# Altium schematic symbol library MasterLib.SchLib: 162 symbols (part 1 of 2)
Pins are listed as number, name and electrical type; pins without a type are passive.

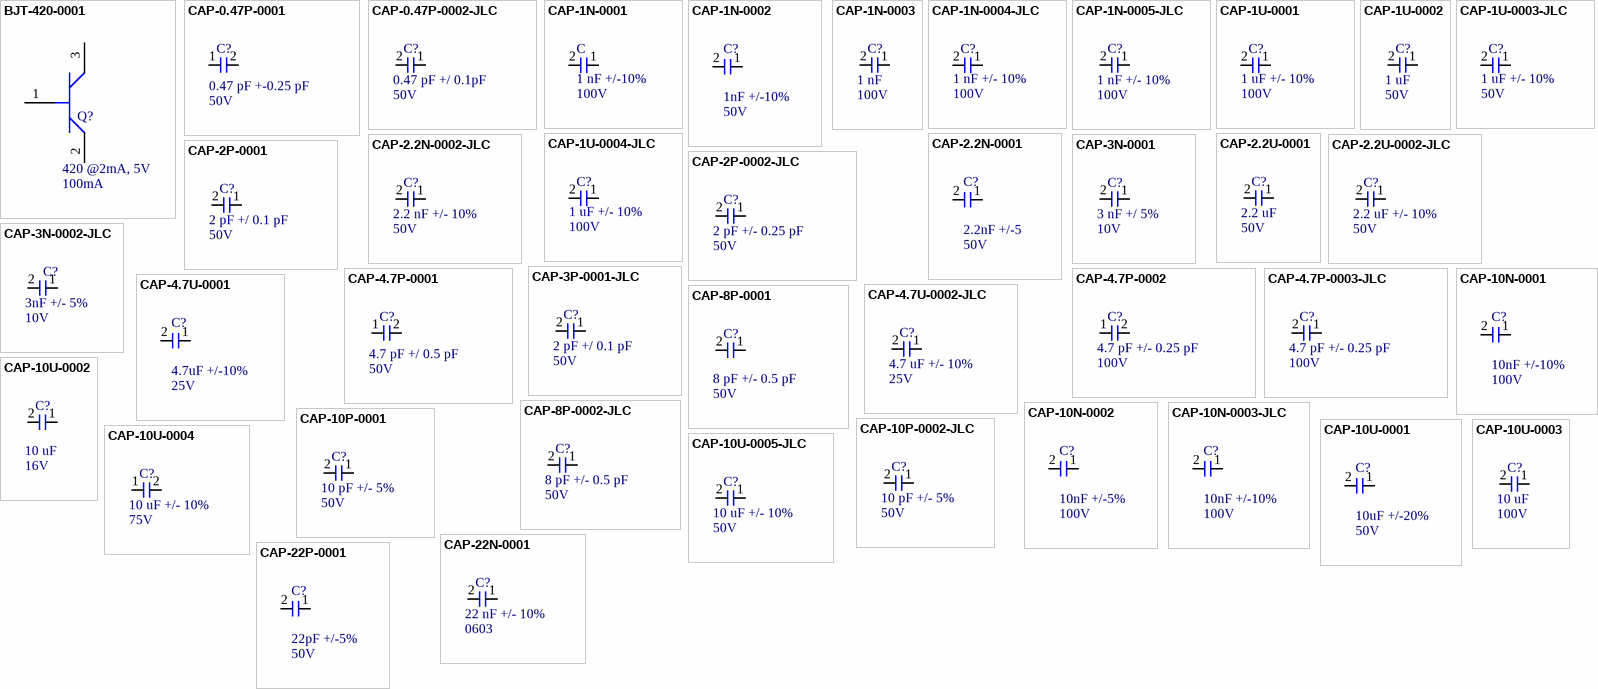
[diagram p0: symbols BJT-420-0001 to CAP-22P-0001]

## BJT-420-0001
designator Q?, comment hFE: 420 @2mA, 5V  Ic: 100mA  (hidden comment: BC847C,235)
Bipolar (BJT) Transistor NPN 45 V 100 mA 100MHz 250 mW Surface Mount TO-236AB; VCEO: 45V; Transistor type: NPN; Package: TO-236AB
footprint NPN-420-0001
pins: 1, 2, 3

## CAP-0.47P-0001
designator C?, comment Capacitance: 0.47 pF +-0.25 pF  Voltage Rating: 50V  (hidden comment: CC0603CRNPO9BNR47)
0.47 pF ±0.25pF 50V Ceramic Capacitor C0G, NP0 0603 (1608 Metric); Manufacturer: YAGEO; Assembled?: Yes; Package Size: 0603; Temperature Coefficient: C0G, NP0; Manufacturere Part Number: CC0603CRNPO9BNR47
footprint CAP-0603
pins: 1, 2

## CAP-0.47P-0002-JLC
designator C?, comment Capacitance: 0.47 pF +/ 0.1pF  Parameter 2: 50V  (hidden comment: CC0402BRNPO9BNR47)
50V 0.47pF NP0 ±0.1pF 0402 Multilayer Ceramic Capacitors MLCC - SMD/SMT ROHS; assembled?: yes; JLC part number: C114389
footprint CAP-0402
pins: 1, 2

## CAP-1N-0001
designator C, comment Capacitance: 1 nF +/-10%  Voltage: 100V  (hidden comment: C0603Y102K1RAC7867)
1000 pF ±10% 100V Ceramic Capacitor X7R 0603 (1608 Metric)
footprint CAP-0603
pins: 1, 2

## CAP-1N-0002
designator C?, comment Capacitance: 1nF +/-10%  Voltage Rating: 50V  (hidden comment: CC0402KPX7R9BB102)
1000 pF ±10% 50V Ceramic Capacitor X7R 0402 (1005 Metric); Manufacturer: YAGEO; Assembled?: no; Manufacturer Part Number: CC0402KPX7R9BB102; Temperature Coefficient: X7R; Package Size: 0402
footprint CAP-0402
pins: 1, 2

## CAP-1N-0003
designator C?, comment Capacitance: 1 nF  Voltage Rating: 100V  (hidden comment: CDR01BX102BKUS7185)
1000 pF ±10% 100V Ceramic Capacitor BX 0805 (2012 Metric); Package Size: 0805
footprint CAP-0805
pins: 1, 2

## CAP-1N-0004-JLC
designator C?, comment Capacitance: 1 nF +/- 10%  Voltage: 100V  (hidden comment: C0402C102K1GECAUTO)
100V 1nF C0G ±10% 0402 Multilayer Ceramic Capacitors MLCC - SMD/SMT ROHS; assembled?: yes; JLC part number: C696348
footprint CAP-0402
pins: 1, 2

## CAP-1N-0005-JLC
designator C?, comment Capacitance: 1 nF +/- 10%  Voltage: 100V  (hidden comment: GCM155R72A102KA37D)
100V 1nF X7R ±10% 0402 Multilayer Ceramic Capacitors MLCC - SMD/SMT ROHS; assembled?: yes; JLC part number: C126538
footprint CAP-0402
pins: 1, 2

## CAP-1U-0001
designator C?, comment Capacitance: 1 uF +/- 10%  Voltage: 100V  (hidden comment: CL31B105KCHNNNE)
1 µF ±10% 100V Ceramic Capacitor X7R 1206 (3216 Metric)
footprint CAP-1206 - duplicate
pins: 1, 2

## CAP-1U-0002
designator C?, comment Capacitance: 1 uF  Voltage: 50V  (hidden comment: UMK107AB7105KA-T)
1 µF ±10% 50V Ceramic Capacitor X7R 0603 (1608 Metric); Package Size: 0603
footprint CAP-0603
pins: 1, 2

## CAP-1U-0003-JLC
designator C?, comment Cap: 1 uF +/- 10%  Voltage: 50V  (hidden comment: GCM21BR71H105KA03L)
50V 1uF X7R ±10% 0805 Multilayer Ceramic Capacitors MLCC - SMD/SMT ROHS; assembled?: yes; JLC Part Number: C126592
footprint CAP-0805
pins: 1, 2

## CAP-1U-0004-JLC
designator C?, comment Capacitance: 1 uF +/- 10%  Voltage: 100V  (hidden comment: C1206X105K101T)
100V 1uF X7R ±10% 1206 Multilayer Ceramic Capacitors MLCC - SMD/SMT ROHS; assembled: yes; JLC Part Number: C106026
footprint CAP-1206 - duplicate
pins: 1, 2

## CAP-2.2N-0001
designator C?, comment Capacitance: 2.2nF +/-5  Voltage Rating: 50V  (hidden comment: CC0402JRX7R9BB222)
2200 pF ±5% 50V Ceramic Capacitor X7R 0402 (1005 Metric); Manufacturer: YAGEO; Assembled?: no; Manufacturer Part Number: CC0402JRX7R9BB222; Temperature Coefficient: X7R; Package Size: 0402
footprint CAP-0402
pins: 1, 2

## CAP-2.2N-0002-JLC
designator C?, comment Capacitance: 2.2 nF +/- 10%  Voltage: 50V  (hidden comment: GCM155R71H222KA37D)
50V 2.2nF X7R ±10% 0402 Multilayer Ceramic Capacitors MLCC - SMD/SMT ROHS; assembled: yes; JLC part number: C126534
footprint CAP-0402
pins: 1, 2

## CAP-2.2U-0001
designator C?, comment Capacitance: 2.2 uF  oltage: 50V  (hidden comment: UMK107BBJ225KA-T)
2.2 µF ±10% 50V Ceramic Capacitor X5R 0603 (1608 Metric)
footprint CAP-0603
pins: 1, 2

## CAP-2.2U-0002-JLC
designator C?, comment Capacitance: 2.2 uF +/- 10%  Voltage: 50V  (hidden comment: CC0805KKX7R9BB225)
50V 2.2uF X7R ±10% 0805 Multilayer Ceramic Capacitors MLCC - SMD/SMT ROHS; assembled: yes; JLC part number: C125847
footprint CAP-0805
pins: 1, 2

## CAP-2P-0001
designator C?, comment Capacitance: 2 pF +/ 0.1 pF  Voltage: 50V  (hidden comment: CC0402BRNPO9BN2R0)
2 pF ±0.1pF 50V Ceramic Capacitor C0G, NP0 0402 (1005 Metric)
footprint CAP-0402
pins: 1, 2

## CAP-2P-0002-JLC
designator C?, comment Cap: 2 pF +/- 0.25 pF  Voltage: 50V  (hidden comment: GJM1555C1H2R0CB01D)
50V 2pF C0G ±0.25pF 0402 Multilayer Ceramic Capacitors MLCC - SMD/SMT ROHS; assembled: yes; JLC part number: C85879
footprint CAP-0402
pins: 1, 2

## CAP-3N-0001
designator C?, comment Capacitance: 3 nF +/ 5%  Voltagev: 10V  (hidden comment: GRM1557U1A302JA01D)
3000 pF ±5% 10V Ceramic Capacitor U2J 0402 (1005 Metric)
footprint CAP-0402
pins: 1, 2

## CAP-3N-0002-JLC
designator C?, comment Capacitance: 3nF +/- 5%  Voltage: 10V  (hidden comment: GRM1557U1A302JA01D)
10V 3nF U2J ±5% 0402 Multilayer Ceramic Capacitors MLCC - SMD/SMT ROHS; assembled: yes; JLC part number: C162145
footprint CAP-0402
pins: 1, 2

## CAP-3P-0001-JLC
designator C?, comment Capacitance: 2 pF +/ 0.1 pF  Voltage: 50V  (hidden comment: CC0402BRNPO9BN3R0)
50V 3pF NP0 ±0.1pF 0402 Multilayer Ceramic Capacitors MLCC - SMD/SMT ROHS; assembled: yes; JLC Part Number: C327228
footprint CAP-0402
pins: 1, 2

## CAP-4.7P-0001
designator C?, comment Capacitance: 4.7 pF +/ 0.5 pF  Voltage Rating: 50V  (hidden comment: 06035A4R7DAT2A)
4.7 pF ±0.5pF 50V Ceramic Capacitor C0G, NP0 0603 (1608 Metric); Manufacturer: KYOCERA AVX; Temperature Coefficient: G0G. NP0; Assembled?: Yes; Manufacturer Part Number: 06035A4R7DAT2A; Package Size: 0603
footprint CAP-0603
pins: 1, 2

## CAP-4.7P-0002
designator C?, comment Capacitance: 4.7 pF +/- 0.25 pF  Voltage: 100V  (hidden comment: CC0603CRNPO0BN4R7)
4.7 pF ±0.25pF 100V Ceramic Capacitor C0G, NP0 0603 (1608 Metric)
footprint CAP-0603
pins: 1, 2

## CAP-4.7P-0003-JLC
designator C?, comment capacitance: 4.7 pF +/- 0.25 pF  Voltage: 100V  (hidden comment: CC0603CRNPO0BN4R7)
100V 4.7pF NP0 ±0.25pF 0603 Multilayer Ceramic Capacitors MLCC - SMD/SMT ROHS; assembled: yes; JLC part number: C527037
footprint CAP-0603
pins: 1, 2

## CAP-4.7U-0001
designator C?, comment Capacitance: 4.7uF +/-10%  Voltage Rating: 25V  (hidden comment: TMK107BBJ475KA-T)
4.7 µF ±10% 25V Ceramic Capacitor X5R 0603 (1608 Metric); Manufacturer: Taiyo Yuden; Assembled?: no; Manufacturer Part Number: TMK107BBJ475KA-T; Temperature Coefficient: X5R; Package Size: 0603
footprint CAP-0603
pins: 1, 2

## CAP-4.7U-0002-JLC
designator C?, comment Capacitacen: 4.7 uF +/- 10%  Voltage: 25V  (hidden comment: CC0603KRX5R8BB475)
25V 4.7uF X5R ±10% 0603 Multilayer Ceramic Capacitors MLCC - SMD/SMT ROHS; assembled: yes; JLC part number: C326580
footprint CAP-0603
pins: 1, 2

## CAP-8P-0001
designator C?, comment Capacitance: 8 pF +/- 0.5 pF  Voltage: 50V  (hidden comment: CC0603DRNPO9BN8R0)
8 pF ±0.5pF 50V Ceramic Capacitor C0G, NP0 0603 (1608 Metric); Package Size: 0603
footprint CAP-0603
pins: 1, 2

## CAP-8P-0002-JLC
designator C?, comment Capaitance: 8 pF +/- 0.5 pF  Parameter 2: 50V  (hidden comment: CC0402DRNPO9BN8R0)
50V 8pF NP0 ±0.5pF 0402 Multilayer Ceramic Capacitors MLCC - SMD/SMT ROHS; assembled: yes; JLC part number: C327227
footprint CAP-0402
pins: 1, 2

## CAP-10N-0001
designator C?, comment Capacitance: 10nF +/-10%  Voltage Rating: 100V  (hidden comment: CC0402KRX7R0BB103)
10000 pF ±10% 100V Ceramic Capacitor X7R 0402 (1005 Metric); Manufacturer: YAGEO; Assembled?: no; Manufacturer Part Number: CC0402KRX7R0BB103; Temperature Coefficient: X7R; Package Size: 0402
footprint CAP-0402
pins: 1, 2

## CAP-10N-0002
designator C?, comment Capacitance: 10nF +/-5%  Voltage Rating: 100V  (hidden comment: C1608C0G2A103J080AC)
CAP CER 10000PF 100V C0G 0603; Manufacturer: TDK Corporation; Temperature Coefficient: C0G/NP0; Assembled?: no; Manufacturer Part Number: C1608C0G2A103J080AC; Package Size: 0603
footprint CAP-0603
pins: 1, 2

## CAP-10N-0003-JLC
designator C?, comment Capacitance: 10nF +/-10%  Voltage Rating: 100V  (hidden comment: CC0603KRX7R0BB103)
100V 10nF X7R ±10% 0603 Multilayer Ceramic Capacitors MLCC - SMD/SMT ROHS; Manufacturer: Yageo; Assembled?: yes; Manufacturer Part Number: CC0603KRX7R0BB103; Temperature Coefficient: X7R; Package Size: 0603; JLC Part Number: C107059
footprint CAP-0603
pins: 1, 2

## CAP-10P-0001
designator C?, comment Capacitance: 10 pF +/- 5%  Voltage Rating: 50V  (hidden comment: 0603N100J500CT)
10 pF ±5% 50V Ceramic Capacitor C0G, NP0 0603 (1608 Metric); Manufacturer: Walshin Technology Corporation; Assembled?: Yes; Manufacturer Part Number: 0603N100J500CT; Temperature Coefficient: C0G, NP0; Package Size: 0603
footprint CAP-0603
pins: 1, 2

## CAP-10P-0002-JLC
designator C?, comment Capacitance: 10 pF +/- 5%  Voltage Rating: 50V  (hidden comment: CC0402JRNPO9BN100)
50V 10pF NP0 ±5% 0402 Multilayer Ceramic Capacitors MLCC - SMD/SMT ROHS; Manufacturer: Yageo; Temperature Coefficient: C0G, NP0; Assembled?: Yes; Manufacturer Part Number: CC0402JRNPO9BN100; Package Size: 0402; JLC Part Number: C106199
footprint CAP-0402
pins: 1, 2

## CAP-10U-0001
designator C?, comment Capacitance: 10uF +/-20%  Voltage Rating: 50V  (hidden comment: CL31B106KBHNNNE)
10 µF ±10% 50V Ceramic Capacitor X7R 1206 (3216 Metric); Manufacturer: Samsung Electro-Mechanics; Assembled?: no; Manufacturer Part Number: CL31B106KBHNNNE; Temperature Coefficient: X7R; Package Size: 1206
footprint CAP-1206
pins: 1, 2

## CAP-10U-0002
designator C?, comment Capacitance: 10 uF  Voltage Rating: 16V  (hidden comment: CL21A106KOQNNNE)
10 µF ±10% 16V Ceramic Capacitor X7R 0805 (2012 Metric); Package Size: 0805
footprint CAP-0805
pins: 1, 2

## CAP-10U-0003
designator C?, comment Capcitance: 10 uF  Voltage Rating: 100V  (hidden comment: GRM32EC72A106KE05L)
10 µF ±10% 100V Ceramic Capacitor X7S 1210 (3225 Metric); Package Size: 1210
footprint CAP-1210
pins: 1, 2

## CAP-10U-0004
designator C?, comment Capacitance: 10 uF +/- 10%  Voltage Rating: 75V  (hidden comment: C3225X7R1N106K250AC)
10 µF ±10% 75V Ceramic Capacitor X7R 1210 (3225 Metric)
footprint CAP-1210
pins: 1, 2

## CAP-10U-0005-JLC
designator C?, comment Capacitance: 10 uF +/- 10%  Voltage: 50V  (hidden comment: CL32A106KBJNNNE)
50V 10uF X5R ±10% 1210 Multilayer Ceramic Capacitors MLCC - SMD/SMT ROHS; jlc part number: C380537; jlc?: yes
footprint CAP-1210
pins: 1, 2

## CAP-22N-0001
designator C?, comment Capacitance: 22 nF +/- 10%  Package Size: 0603  (hidden comment: C0603C223K3RAC7867)
0.022 µF ±10% 25V Ceramic Capacitor X7R 0603 (1608 Metric)
footprint CAP-0603
pins: 1, 2

## CAP-22P-0001
designator C?, comment Capacitance: 22pF +/-5%  Voltage Rating: 50V  (hidden comment: GRT1555C1H220JA02J)
22 pF ±5% 50V Ceramic Capacitor C0G, NP0 0402 (1005 Metric); Manufacturer: Murata; Temperature Coefficient: C0G/NP0; Assembled?: no; Manufacturer Part Number: GRT1555C1H220JA02J; Package Size: 0402
footprint CAP-0402
pins: 1, 2

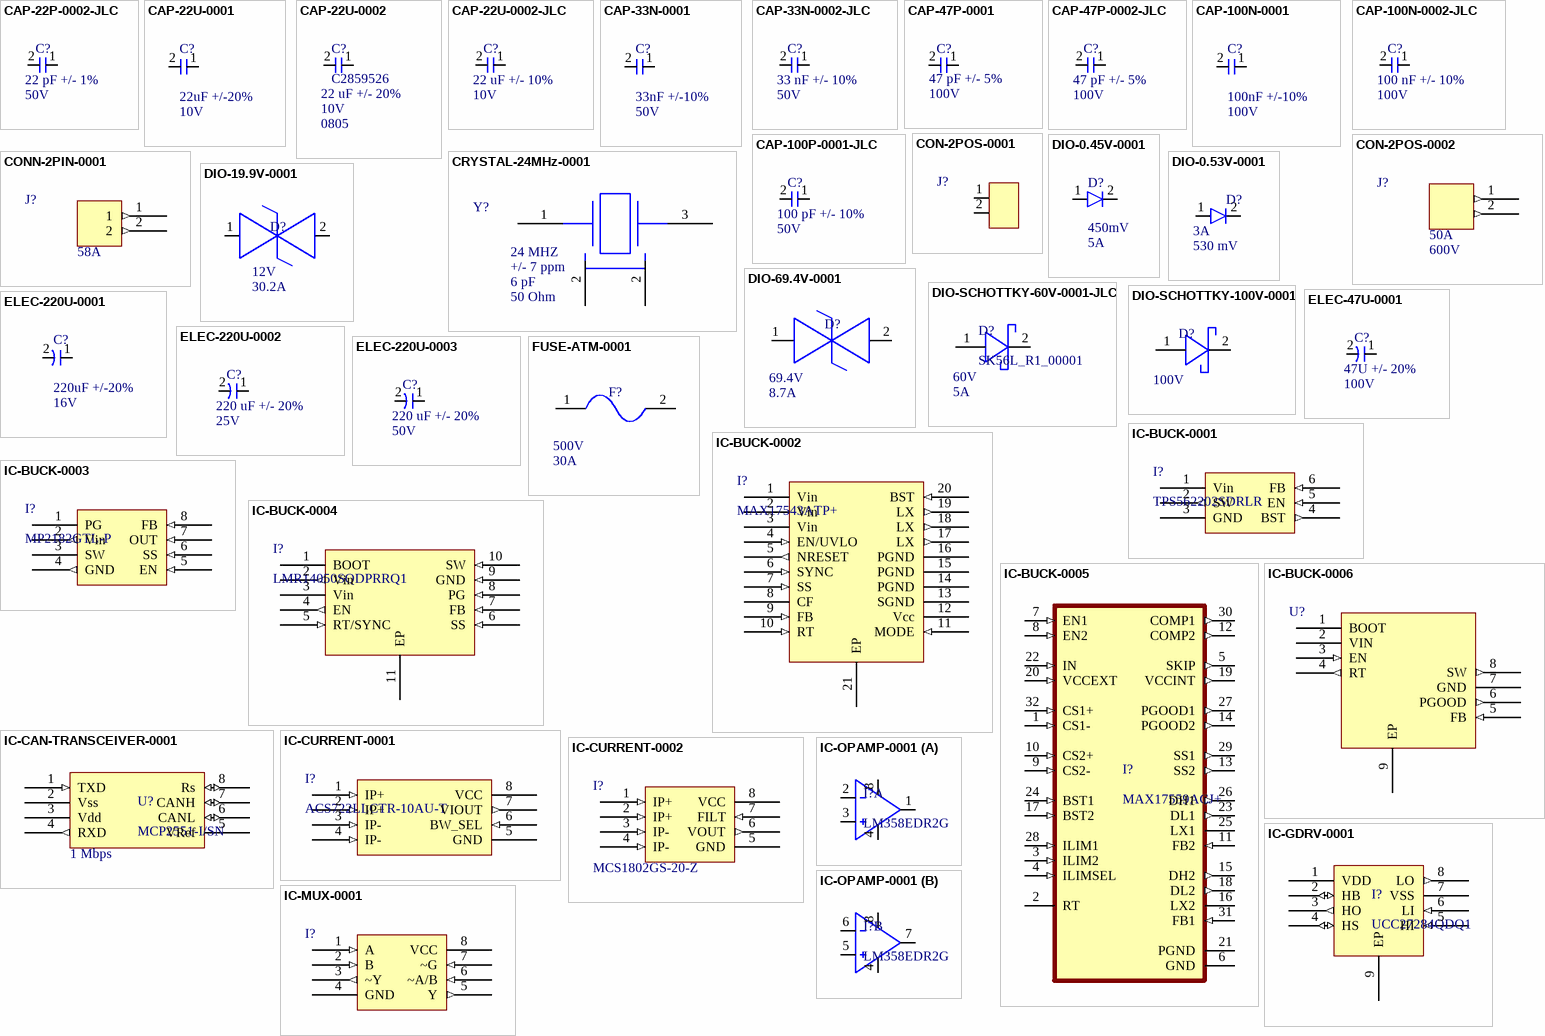
[diagram p1: symbols CAP-22P-0002-JLC to IC-OPAMP-0001]

## CAP-22P-0002-JLC
designator C?, comment Capacitance: 22 pF +/- 1%  Voltage: 50V  (hidden comment: CC0402FRNPO9BN220)
50V 22pF NP0 ±1% 0402 Multilayer Ceramic Capacitors MLCC - SMD/SMT ROHS; assembled?: yes; JLC part number: C277482
footprint CAP-0402
pins: 1, 2

## CAP-22U-0001
designator C?, comment Capacitance: 22uF +/-20%  Voltage Rating: 10V  (hidden comment: CL31B226MPHNNNE)
22 µF ±20% 10V Ceramic Capacitor X7R 1206 (3216 Metric); Manufacturer: Samsung Electro-Mechanics; Assembled?: no; Manufacturer Part Number: CL31B226MPHNNNE; Temperature Coefficient: X7R; Package Size: 1206
footprint CAP-1206
pins: 1, 2

## CAP-22U-0002
designator C?, comment C2859526  Capacitance: 22 uF +/- 20%  Voltage: 10V  Package Size: 0805
22uF 10V 5Ω ±20% 0805  Tantalum Capacitors ROHS
footprint CAP-0805
pins: 1, 2

## CAP-22U-0002-JLC
designator C?, comment Capacitance: 22 uF +/- 10%  Voltage: 10V  (hidden comment: LMK316AB7226KL-TR)
10V 22uF X7R ±10% 1206 Multilayer Ceramic Capacitors MLCC - SMD/SMT ROHS; assembled?: yes; JLC part number: C386064
footprint CAP-1206 - duplicate
pins: 1, 2

## CAP-33N-0001
designator C?, comment Capacitance: 33nF +/-10%  Voltage Rating: 50V  (hidden comment: CC0603KRX7R9BB333)
0.033 µF ±10% 50V Ceramic Capacitor X7R 0603 (1608 Metric); Manufacturer: YAGEO; Assembled?: no; Manufacturer Part Number: CC0603KRX7R9BB333; Temperature Coefficient: X7R; Package Size: 0603
footprint CAP-0603
pins: 1, 2

## CAP-33N-0002-JLC
designator C?, comment Capacitance: 33 nF +/- 10%  Voltage: 50V  (hidden comment: GRM155R71H333KE14D)
50V 33nF X7R ±10% 0402  Multilayer Ceramic Capacitors MLCC - SMD/SMT ROHS; assembled?: yes; JLC part number: C415530
footprint CAP-0402
pins: 1, 2

## CAP-47P-0001
designator C?, comment Capacitance: 47 pF +/- 5%  Voltage Rating: 100V  (hidden comment: 7447798111)
47 pF ±5% 100V Ceramic Capacitor C0G, NP0 0603 (1608 Metric)
footprint CAP-0603
pins: 1, 2

## CAP-47P-0002-JLC
designator C?, comment Capacitance: 47 pF +/- 5%  Voltage: 100V  (hidden comment: CC0402JRNPO0BN470)
100V 47pF NP0 ±5% 0402  Multilayer Ceramic Capacitors MLCC - SMD/SMT ROHS; assembled?: yes; JLC part number: C576703
footprint CAP-0402
pins: 1, 2

## CAP-100N-0001
designator C?, comment Capacitance: 100nF +/-10%  Voltage Rating: 100V  (hidden comment: CC0603KRX7R0BB104)
CAP CER 0.1UF 100V X7R 0603; Manufacturer: YAGEO; Assembled?: no; Manufacturer Part Number: CC0603KRX7R0BB104; Temperature Coefficient: X7R; Package Size: 0603
footprint CAP-0603
pins: 1, 2

## CAP-100N-0002-JLC
designator C?, comment Capacitance: 100 nF +/- 10%  Voltage: 100V  (hidden comment: CC0603KRX7R0BB104)
100V 100nF X7R ±10% 0603 Multilayer Ceramic Capacitors MLCC - SMD/SMT ROHS; assembled?: yes; JLC Part Number: C113803
footprint CAP-0603
pins: 1, 2

## CAP-100P-0001-JLC
designator C?, comment Capacitance: 100 pF +/- 10%  Voltage: 50V  (hidden comment: 0402B101K500NT)
50V 100pF X7R ±10% 0402 Multilayer Ceramic Capacitors MLCC - SMD/SMT ROHS; assembled?: yes; JLC part number: C2991538
footprint CAP-0402
pins: 1, 2

## CON-2POS-0001
designator J?, comment Pin Header 2POS  (value not drawn)
Assembled?: no; Rows: 1; Pins: 2
footprint CON-2POS-0001
pins: 1, 2

## CON-2POS-0002
designator J?, comment Current: 50A  Voltage: 600V  (hidden comment: 0389690002)
2 Circuit 0.500" (12.70mm) Barrier Block Connector Screws with Captive Plate
footprint CON-2POS-0002
pins: 1 (out), 2 (out)

## CONN-2PIN-0001
designator J?, comment Current Rating: 58A  (hidden comment: *691256610002)
2 Position Wire to Board Terminal Block Horizontal with Board 0.400" (10.16mm) Through Hole; Number of Inputs: 2
footprint CONN-2PIN-0001
pins: 1 (out), 2 (out)

## CRYSTAL-24MHz-0001
designator Y?, comment Frequency: 24 MHZ  Frequency Tolerance: +/- 7 ppm  Load Capacitance: 6 pF  Equavalence Series Resistance: 50 Ohm  (hidden comment: ECS-240-6-37B-7KM-TR)
24 MHz ±7ppm Crystal 6pF 50 Ohms 4-SMD, No Lead; Manufacturer: ECS Inc.; Manufacturer Part Number: ECS-240-6-37B-7KM-TR; Package Size: 4-SMD
footprint CRYSTAL-4-SMD-0001
pins: 1, 2, 2, 3

## DIO-0.45V-0001
designator D?, comment Vf: 450mV  Current Rating: 5A  (hidden comment: RB081LAM-20TR)
Diode Schottky 20 V 5A Surface Mount PMDTM; Manufacturer: Rohm Semiconductor; Assembled?: no; Breakdown Voltage: 20V; Manufacturer Part Number: RB081LAM-20TR; Package: SOD-128
footprint DIO-SOD128
pins: 1, 2

## DIO-0.53V-0001
designator D?, comment Current Rating: 3A  Vf (Voltage Forward): 530 mV  (hidden comment: PMEG6030EP,115)
Diode Schottky 60 V 3A Surface Mount SOD-128/CFP5; Manufacturer: Nexperia USA Inc.; Assembled: no; Manufacturer Part Number: PMEG6030EP,115; Package: SOD-128/CFP5
footprint DIO-SOD128
pins: 1, 2

## DIO-19.9V-0001
designator D?, comment Standoff Voltage: 12V  Current Rating: 30.2A  (hidden comment: SMBJ12CA)
19.9V Clamp 30.2A Ipp Tvs Diode Surface Mount DO-214AA (SMBJ); Manufacturer: Littlefuse Inc.; Assembled: No; Breakdown Voltage: 13.3; Manufacturer Part Number: SMBJ12CA; Package: DO-214AA (SMBJ)
footprint DO-214AA (SMBJ)
pins: 1, 2

## DIO-69.4V-0001
designator D?, comment Vclamp: 69.4V  Peak pulser current: 8.7A  (hidden comment: SMBJE43CAH)
69.4V Clamp 8.7A Ipp Tvs Diode Surface Mount DO-214AA (SMBJ); Channels: Bidirectional; Breakdown VOltage: 47.8V; Reverse working maximum voltage: 43V; Package: DO-214AA (SMBJ)
footprint DO-214AA (SMBJ)
pins: 1, 2

## DIO-SCHOTTKY-60V-0001-JLC
designator D?, comment SK56L_R1_00001  Reverse voltage: 60V  Current: 5A
Diode 60 V 5A Surface Mount SMC (DO-214AB); Vf: 500 mA @5A; jlc?: yes; jlc part number: C294834
footprint DO-214AB
pins: 1 5, 2 6

## DIO-SCHOTTKY-100V-0001
designator D?, comment DC Reverse Voltage: 100V  (hidden comment: SK510A-LTP)
Diode 100 V 5A Surface Mount DO-214AC (SMA); Forward Voltage: 850mV @ 5A; Current: 5A
footprint DIO-SCHOTTKY-100V
pins: 1 5, 2 6

## ELEC-47U-0001
designator C?, comment Capacitance: 47U +/- 20%  Voltage: 100V  (hidden comment: 100SGV47M12.5X13.5)
47 µF 100 V Aluminum Electrolytic Capacitors Radial, Can - SMD 2000 Hrs @ 105°C
footprint ELEC-47U-0001
pins: 1, 2

## ELEC-220U-0001
designator C?, comment Capacitance: 220uF +/-20%  Voltage Rating: 16V  (hidden comment: UUD1C221MCL1GS)
220 µF 16 V Aluminum Electrolytic Capacitors Radial, Can - SMD 2000 Hrs @ 105°C; Manufacturer: Nichicon; Assembled?: no; Manufacturer Part Number: UUD1C221MCL1GS
footprint ELEC-220U-0001
pins: 1, 2

## ELEC-220U-0002
designator C?, comment Capacitance: 220 uF +/- 20%  Voltage: 25V  (hidden comment: 25THV220M8X10.5)
220 µF 25 V Aluminum Electrolytic Capacitors Radial, Can - SMD 300mOhm @ 100kHz 3000 Hrs @ 125°C; SIze: 0.327 in x 0.327 in
footprint ELEC-220U-0002
pins: 1, 2

## ELEC-220U-0003
designator C?, comment Capacitance: 220 uF +/- 20%  Voltage Rating: 50V  (hidden comment: 50TZV220M10X10.5)
220 µF 50 V Aluminum Electrolytic Capacitors Radial, Can - SMD 2000 Hrs @ 105°C; Size: .406inx.406in*.413in
footprint ELEC-220U-0003
pins: 1, 2

## FUSE-ATM-0001
designator F?, comment Voltage Rating: 500V  Current: 30A  (hidden comment: 3568)
Fuse Holder 30 A 500V 1 Circuit Blade Through Hole; Manufacturer Part Number: 3568
footprint FUSE-ATM-0001
pins: 1 0, 2 1

## IC-BUCK-0001
designator I?, comment TPS562202SDRLR
Buck Switching Regulator IC Positive Adjustable 0.804V 1 Output 2A SOT-563, SOT-666; Manufacturer: Texas Instruments; Assembled?: no; VCC-Max: 17V; VCC-Min: 4.3V; Vout-Max: 7V; Vout-Tolerance: +/-5%; Fsw: 580kHz; Manufacturer Part Number: TPS562202SDRLR; Type: Buck; Package: SOT-563; Vout-Min: 0.804V; Output Current-Max: 2A
footprint IC-BUCK-SOT563
pins: 1 Vin (power), 2 SW (out), 3 GND (power), 4 BST (out), 5 EN (in), 6 FB (in)

## IC-BUCK-0002
designator I?, comment MAX17543ATP+
Buck Switching Regulator IC Positive Adjustable 0.9V 1 Output 2.5A 20-WFQFN Exposed Pad; Manufacturer: Maxim Integrated; Assembled?: no; VCC-Max: 42V; VCC-Min: 4.5V; Vout-Min: 37V; Vout-Tolerance: 1.1%; Fsw: 100kHz - 2.2MHz; Manufacturer Part Number: MAX17543; Type: Buck; Package: 20-TQFN; Vout-Max: 0.9V; Output Current-Max: 2.5A
footprint IC-20TQFN
pins: 1 Vin (power), 2 Vin (power), 3 Vin (power), 4 EN/UVLO (in), 5 NRESET (out), 6 SYNC (in), 7 SS (in), 8 CF (power), 9 FB (in), 10 RT (in), 11 MODE (in), 12 Vcc (power), 13 SGND (power), 14 PGND (power), 15 PGND (power), 16 PGND (power), 17 LX (out), 18 LX (out), 19 LX (out), 20 BST (in), 21 EP (power)

## IC-BUCK-0003
designator I?, comment MP2182GTL-P
Buck Switching Regulator IC Positive Adjustable 0.6V 1 Output 2A SOT-583; Manufacturer: Monolithic Power Systems; Assembled?: no; VCC-Max: 5.5V; VCC-Min: 2.5V; Vout-Tolerance: +/-1%; Fsw: 1.2MHz; Manufacturer Part Number: MP2182GTL-P; Type: Buck; Package: SOT-583; Vout-Max: 5.5V; Vout-Min: 0.6V; Output Current-Max: 2A
footprint IC-SOT583
pins: 1 PG (power), 2 Vin (out), 3 SW (power), 4 GND (out), 5 EN (in), 6 SS (in), 7 OUT (in), 8 FB (in)

## IC-BUCK-0004
designator I?, comment LMR14050SQDPRRQ1
Buck Switching Regulator IC Positive Adjustable 0.8V 1 Output 5A 10-WDFN Exposed Pad; Manufacturer: Texas Instruments; Assembled?: no; VCC-Max: 40V; VCC-Min: 4V; Vout-Max: 28V; Fsw: 200kHz-2.2MHz; Manufacturer Part Number: LMR14050SQDPRRQ1; Type: Buck; Package: 10-WSON; Vout-Min: 0.8V; Output Current-Max: 5A
footprint IC-10WSON
pins: 1 BOOT (power), 2 Vin (out), 3 Vin (power), 4 EN (out), 5 RT/SYNC (in), 6 SS (in), 7 FB (in), 8 PG (in), 9 GND (in), 10 SW (in), 11 EP (power)

## IC-BUCK-0005
designator I?, comment MAX17559ACJ+
Buck Regulator Positive Output Step-Down - DC-DC Controller IC 32-TQFP (7x7); MF: Maxim Integrated; SnapEDA_Link: https://www.snapeda.com/parts/MAX17559ACJ+/Maxim+Integrated/view-part/?ref=snap; MP: MAX17559ACJ+; Package: TQFP-32 Maxim; Check_prices: https://www.snapeda.com/parts/MAX17559ACJ+/Maxim+Integrated/view-part/?ref=eda; Value: *; Purchase-URL: https://pricing.snapeda.com/search/part/MAX17559ACJ+/?ref=eda; Digi-Key_Part_Number: MAX17559ACJ+T-ND
footprint IC-BUCK-TQFP-7x7
pins: 1 CS1- (in), 2 RT, 3 ILIM2 (in), 4 ILIMSEL (in), 5 SKIP (out), 6 GND (power), 7 EN1 (in), 8 EN2 (in), 9 CS2- (in), 10 CS2+ (in), 11 FB2 (in), 12 COMP2 (out), 13 SS2 (out), 14 PGOOD2 (out), 15 DH2 (out), 16 LX2, 17 BST2 (in), 18 DL2 (out), 19 VCCINT (out), 20 VCCEXT (in), 21 PGND (power), 22 IN (in), 23 DL1 (out), 24 BST1 (in), 25 LX1, 26 DH1 (out), 27 PGOOD1 (out), 28 ILIM1 (in), 29 SS1 (out), 30 COMP1 (out), 31 FB1 (in), 32 CS1+ (in)

## IC-BUCK-0006
designator U?, comment LMR16030SDDA  (value not drawn)
Buck Switching Regulator IC Positive Adjustable 0.8V 1 Output 3A 8-PowerSOIC (0.154", 3.90mm Width); Vin: 4.3V-60V; Vout: 0.8V-50V; Current: 3A; jlc?: no
footprint IC-8PowerSOIC
pins: 1 BOOT (power), 2 VIN (power), 3 EN (in), 4 RT (out), 5 FB (in), 6 PGOOD (out), 7 GND (power), 8 SW (out), 9 EP (power)

## IC-CAN-TRANSCEIVER-0001
designator U?, comment MCP2551-I/SN  Bitrate: 1 Mbps
1/1 Transceiver Half CANbus 8-SOIC
footprint IC-BUCK-8SOIC
pins: 1 TXD (in), 2 Vss (power), 3 Vdd (power), 4 RXD (out), 5 VRef (power), 6 CANL (io), 7 CANH (io), 8 Rs (io)

## IC-CURRENT-0001
designator I?, comment ACS722LLCTR-10AU-T
Current Sensor 10A 1 Channel Hall Effect, Open Loop Unidirectional 8-SOIC (0.154", 3.90mm Width)
footprint IC-CURRENT-0001
pins: 1 IP+ (in), 2 IP+ (in), 3 IP- (in), 4 IP- (in), 5 GND (power), 6 BW_SEL (in), 7 VIOUT (out), 8 VCC (power)

## IC-CURRENT-0002
designator I?, comment MCS1802GS-20-Z
Current Sensor ±20A 1 Channel Hall Effect Bidirectional 8-SOIC (0.154", 3.90mm Width); Manufacturer Part Number: MCS1802GS-20-Z
footprint IC-BUCK-8SOIC
pins: 1 IP+ (in), 2 IP+ (in), 3 IP- (in), 4 IP- (in), 5 GND (power), 6 VOUT (out), 7 FILT (in), 8 VCC (power)

## IC-GDRV-0001
designator I?, comment UCC27284QDQ1
Gate Drivers Automotive 3-A, 120-V half bridge gate driver with 5-V UVLO and enable 8-SOIC -40 to 125; Manufacturer: Texas Instruments; Assembled?: no; VCC-Max: 16V; VCC-Min: 5.5V; Load Voltage-Max: 120V; Supply Current: 3A; Manufacturer Part Number: UCC27284QDQ1; Package: SOIC-8
footprint IC-BUCK-8SOIC
pins: 1 VDD (power), 2 HB (io), 3 HO (out), 4 HS (io), 5 HI (in), 6 LI (in), 7 VSS (power), 8 LO (out), 9 EP (power)

## IC-MUX-0001
designator I?, comment SN74LVC2G157DCUR  (value not drawn)
Multiplexer 1 x 2:1 8-VSSOP
footprint IC-MUX-8VSSOP
pins: 1 A (in), 2 B (in), 3 ~Y (out), 4 GND (power), 5 Y (out), 6 ~A/B (in), 7 ~G (in), 8 VCC (power)

## IC-OPAMP-0001
designator I?, comment LM358EDR2G
IC OPAMP GP 2 CIRCUIT 8SOIC; Manufacturer: onsemi; CMRR: 70dB; Rail-to-Rail?: no; Supply Current - Max: 3mA; VCC-Max: 32V; VCC-Min: 3V; Assembled?: no; Manufacturer Part Number: LM358EDR2G; Package: 8-SOIC
footprint IC-OPAMP-0001
part A pins: 1, 2, 3, 4, 8
part B pins: 4, 5, 6, 7, 8

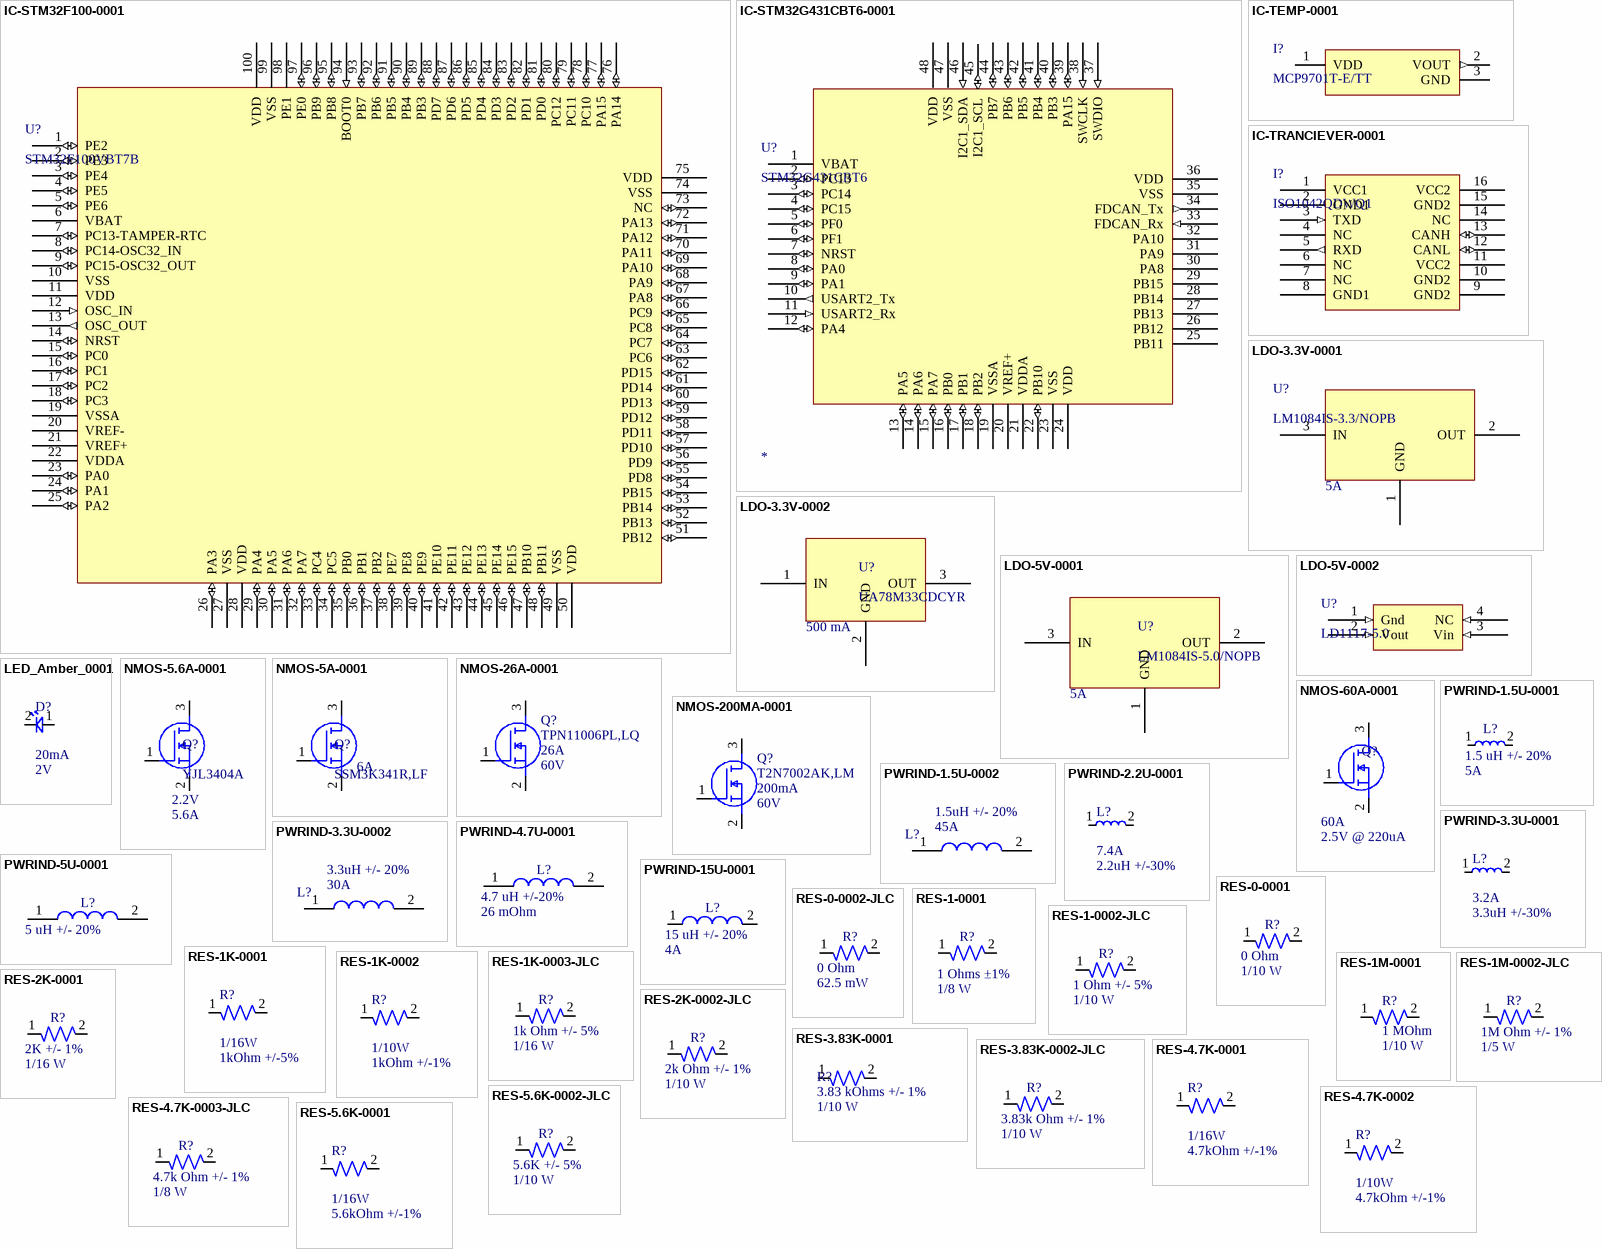
[diagram p2: symbols IC-STM32F100-0001 to RES-5.6K-0002-JLC]

## IC-STM32F100-0001
designator U?, comment STM32F100VBT7B
ARM® Cortex®-M3 STM32F1 Microcontroller IC 32-Bit Single-Core 24MHz 128KB (128K x 8) FLASH 100-LQFP (14x14); VCC: 2 ~ 3.6V; Manufacturer Part Number: STM32F100VBT7B; Package Size: 100-LQFP
footprint IC-STM32F100-0001 (STM32F100VBT7b)
pins: 1 PE2 (io), 2 PE3 (io), 3 PE4 (io), 4 PE5 (io), 5 PE6 (io), 6 VBAT (power), 7 PC13-TAMPER-RTC (io), 8 PC14-OSC32_IN (io), 9 PC15-OSC32_OUT (io), 10 VSS (power), 11 VDD (power), 12 OSC_IN (in), 13 OSC_OUT (out), 14 NRST (io), 15 PC0 (io), 16 PC1 (io), 17 PC2 (io), 18 PC3 (io), 19 VSSA (power), 20 VREF- (power), 21 VREF+ (power), 22 VDDA (power), 23 PA0 (io), 24 PA1 (io), 25 PA2 (io), 26 PA3 (io), 27 VSS (power), 28 VDD (power), 29 PA4 (io), 30 PA5 (io), 31 PA6 (io), 32 PA7 (io), 33 PC4 (io), 34 PC5 (io), 35 PB0 (io), 36 PB1 (io), 37 PB2 (io), 38 PE7 (io), 39 PE8 (io), 40 PE9 (io), 41 PE10 (io), 42 PE11 (io), 43 PE12 (io), 44 PE13 (io), 45 PE14 (io), 46 PE15 (io), 47 PB10 (io), 48 PB11 (io), 49 VSS (power), 50 VDD (power), 51 PB12 (io), 52 PB13 (io), 53 PB14 (io), 54 PB15 (io), 55 PD8 (io), 56 PD9 (io), 57 PD10 (io), 58 PD11 (io), 59 PD12 (io), 60 PD13 (io), 61 PD14 (io), 62 PD15 (io), 63 PC6 (io), 64 PC7 (io), 65 PC8 (io), 66 PC9 (io), 67 PA8 (io), 68 PA9 (io), 69 PA10 (io), 70 PA11 (io), 71 PA12 (io), 72 PA13 (io), 73 NC (io), 74 VSS (power), 75 VDD (power), 76 PA14 (io), 77 PA15 (io), 78 PC10 (io), 79 PC11 (io), 80 PC12 (io), 81 PD0 (io), 82 PD1 (io), 83 PD2 (io), 84 PD3 (io), 85 PD4 (io), 86 PD5 (io), 87 PD6 (io), 88 PD7 (io), 89 PB3 (io), 90 PB4 (io), 91 PB5 (io), 92 PB6 (io), 93 PB7 (io), 94 BOOT0 (in), 95 PB8 (io), 96 PB9 (io), 97 PE0 (io), 98 PE1 (power), 99 VSS (power), 100 VDD (power)

## IC-STM32G431CBT6-0001
designator U?, comment STM32G431CBT6
ARM® Cortex®-M4F STM32G4 Microcontroller IC 32-Bit Single-Core 170MHz 128KB (128K x 8) FLASH 48-LQFP (7x7); Parameter 1: *
footprint Quad48
pins: 1 VBAT (power), 2 PC13 (io), 3 PC14 (io), 4 PC15 (io), 5 PF0 (io), 6 PF1 (io), 7 NRST (io), 8 PA0 (io), 9 PA1 (io), 10 USART2_Tx (out), 11 USART2_Rx (in), 12 PA4 (io), 13 PA5 (io), 14 PA6 (io), 15 PA7 (io), 16 PB0 (io), 17 PB1 (io), 18 PB2 (io), 19 VSSA (power), 20 VREF+ (power), 21 VDDA (power), 22 PB10 (io), 23 VSS (power), 24 VDD (power), 25 PB11 (power), 26 PB12 (power), 27 PB13 (power), 28 PB14 (power), 29 PB15 (power), 30 PA8 (power), 31 PA9 (power), 32 PA10 (power), 33 FDCAN_Rx (in), 34 FDCAN_Tx (out), 35 VSS (power), 36 VDD (power), 37 SWDIO (in), 38 SWCLK (in), 39 PA15 (io), 40 PB3 (io), 41 PB4 (io), 42 PB5 (io), 43 PB6 (io), 44 PB7 (io), 45 I2C1_SCL (io), 46 I2C1_SDA (in), 47 VSS (power), 48 VDD (power)

## IC-TEMP-0001
designator I?, comment MCP9701T-E/TT
Temperature Sensor Analog, Local -10°C ~ 125°C 19.5mV/°C SOT-23-3; Manufacturer: Microchip Technology; Assembled?: no; VCC-Max: 5.5V; VCC-Min: 3.3V; Manufacturer Part Number: MCP9701T-E/TT; Package: SOT-23-3
footprint IC-TEMP-0001
pins: 1 VDD (power), 2 VOUT (out), 3 GND (power)

## IC-TRANCIEVER-0001
designator I?, comment ISO1042QDWQ1
1/1 Transceiver Full CANbus 16-SOIC
footprint IC-TRANCIEVER-0001
pins: 1 VCC1 (power), 2 GND1 (power), 3 TXD (in), 4 NC, 5 RXD (out), 6 NC, 7 NC, 8 GND1 (power), 9 GND2 (power), 10 GND2 (power), 11 VCC2 (power), 12 CANL (io), 13 CANH (io), 14 NC, 15 GND2 (power), 16 VCC2 (power)

## LDO-3.3V-0001
designator U?, comment LM1084IS-3.3/NOPB  Current: 5A
Linear Voltage Regulator IC Positive Fixed 1 Output 5A DDPAK/TO-263-3; Vout (fixed): 3.3V; Vin (max): 27V; Package: DDPAK/TO-263-3
footprint DDPAK/TO-263-3
pins: 1 GND (power), 2 OUT (power), 3 IN (power)

## LDO-3.3V-0002
designator U?, comment UA78M33CDCYR  Current: 500 mA
Linear Voltage Regulator IC Positive Fixed 1 Output 500mA SOT-223-4; Vin: 25V; Vout: 3.3V; Package: SOT-223-4
footprint SOT-223-4
pins: 1 IN (power), 2 GND (power), 3 OUT (power)

## LDO-5V-0001
designator U?, comment LM1084IS-5.0/NOPB  Current: 5A
Linear Voltage Regulator IC Positive Fixed 1 Output 5A DDPAK/TO-263-3; VIn: 25V; Vout: 5V; Package: DDPAK/TO-263-3
footprint DDPAK/TO-263-3
pins: 1 GND (power), 2 OUT (power), 3 IN (power)

## LDO-5V-0002
designator U?, comment LD1117-5.0
1A 60dB@(120Hz) Fixed 5V~5V Positive 18V SOT-223  Linear Voltage Regulators (LDO) ROHS; Vout: 5V; Vin: 12V; Current: 1A
footprint SOT-223-3L
pins: 1 Gnd (in), 2 Vout (in), 3 Vin (in), 4 NC (in)

## LED_Amber_0001
designator D?, comment Current Rating: 20mA  Vf: 2V  (hidden comment: 150060AS75000)
CAP CER 0.1UF 100V X7R 0603; Manufacturer: Wurth Electronik; Assembled?: no; Color: Amber; Manufacturer Part Number: 150060AS75000; Package Size: 0603
footprint LED-0603
pins: 1, 2

## NMOS-5.6A-0001
designator Q?, comment YJL3404A  Vgs(th): 2.2V  Drain Current: 5.6A
N-Channel 30 V 5.6A (Ta) 1.2W (Ta) Surface Mount SOT-23; Vdss: 30V; Rds On: 24 mOhm; Manufacturer Part Number: YJL3404A; Package Size: SOT23
footprint NMOS-SOT23-3
pins: 1 G, 2 S, 3 D

## NMOS-5A-0001
designator Q?, comment SSM3K341R,LF  Id: 6A
N-Channel 60 V 6A (Ta) 1.2W (Ta) Surface Mount SOT-23F; Vgs: 2.5V; Vdss: 60V; RdsOn: 36mOhm; Package: SOT-23-3
footprint NMOS-SOT23-3
pins: 1 G, 2 S, 3 D

## NMOS-26A-0001
designator Q?, comment TPN11006PL,LQ  Id-Continuous: 26A  VDS-Max: 60V
N-Channel 60 V 26A (Tc) 610mW (Ta), 61W (Tc) Surface Mount 8-TSON Advance (3.1x3.1); Manufacturer: Toshiba; Rds On-Max: 18.1mOhm; Vgs-Max: 20V; Assembled?: no; Manufacturer Part Number: TPN11006PL,LQ; FET type: N-Channel; Package: 8-TSON Advance
footprint NMOS-8TSON
pins: 1 G, 2 S, 3 D

## NMOS-60A-0001
designator Q?, comment Drain Current: 60A  Vgs: 2.5V @ 220uA  (hidden comment: TPH7R006PL,L1Q)
N-Channel 60 V 60A (Tc) 81W (Tc) Surface Mount 8-SOP Advance (5x5); Vdss: 60V; Vgs(Max): 20V; Package: 8-PowerVDFN
footprint NMOS-8PowerVDFN
pins: 1 G, 2 S, 3 D

## NMOS-200MA-0001
designator Q?, comment T2N7002AK,LM  Id-Continuous: 200mA  VDS-Max: 60V
MOSFET N-CH 60V 200MA SOT23; Manufacturer: Toshiba; FET type: N-Channel; Rds On-Max: 3.9Ohm; Vgs-Max: 20V; Assembled?: no; Manufacturer Part Number: T2N7002AK,LM; Package: SOT-23-3
footprint NMOS-SOT23-3
pins: 1 G, 2 S, 3 D

## PWRIND-1.5U-0001
designator L?, comment Inductance: 1.5 uH +/- 20%  Saturation Current: 5A  (hidden comment: SRP3212-1R5M)
1.5 µH Shielded Drum Core, Wirewound Inductor 4.4 A 53mOhm Max 1210 (3225 Metric); Manufacturer: Bourns Inc.; Assembled?: Yes; Manufacturer Part Number: SRP3212-1R5M; Package Size: 1210; DC Resistance: 53 mOhm
footprint IND-1210
pins: 1, 2

## PWRIND-1.5U-0002
designator L?, comment Saturation Current: 45A  Inductance: 1.5uH +/- 20%  (hidden comment: SRP1265A-1R5M)
1.5 µH Shielded Drum Core, Wirewound Inductor 27 A 3mOhm Max Nonstandard; Manufacturer: Bourns Electronics; Type: DEV; DC Resistnace: 3.0mOhm max; Copyright: Copyright (C) 2022 Ultra Librarian. All rights reserved.; Manufacturer Part Number: SRP1265A-1R5M; Dimensions: 12.5x13.5x6.2
footprint PWRIND-1.5U-0002
pins: 1, 2

## PWRIND-2.2U-0001
designator L?, comment Saturation Current: 7.4A  Inductance: 2.2uH +/-30%  (hidden comment: SRN8040-2R2Y)
2.2 µH Semi-Shielded Drum Core, Wirewound Inductor 6.3 A 13mOhm Max Nonstandard; Manufacturer: Bourns Inc.; Assembled?: no; DC Resistance: 13mOhms; Manufacturer Part Number: SRN8040-2R2Y; Dimensions: 8x8x4 (mm)
footprint PWRIND-2.2U-0001
pins: 1, 2

## PWRIND-3.3U-0001
designator L?, comment Saturation Current: 3.2A  Inductance: 3.3uH +/-30%  (hidden comment: SRN6045-3R3Y)
3.3 µH Semi-Shielded Drum Core, Wirewound Inductor 3.2 A 30.2mOhm Max Nonstandard; Manufacturer: Bourns Inc.; Assembled?: no; Manufacturer Part Number: SRN6045-3R3Y; Dimensions: 6x6x4.5 (mm); DC Resistance: 30.2mOhm
footprint PWRIND-3.3U-0001
pins: 1, 2

## PWRIND-3.3U-0002
designator L?, comment Saturation Current: 30A  Inductance: 3.3uH +/- 20%  (hidden comment: SRP1265A-3R3M)
3.3 µH Shielded Drum Core, Wirewound Inductor 18 A 6.8mOhm Max Nonstandard; Manufacturer: Bourns Electronics; Type: DEV; Copyright: Copyright (C) 2022 Ultra Librarian. All rights reserved.; Manufacturer Part Number: SRP1265A-3R3M; Dimensions: 12.5x13.5x6.2; DC Resistance: 6.8mOhm max
footprint PWRIND-3.3U-0002
pins: 1, 2

## PWRIND-4.7U-0001
designator L?, comment Inductance: 4.7 uH +/-20%  DCR: 26 mOhm  (hidden comment: SRN6045TA-4R7M)
4.7 µH Semi-Shielded Drum Core, Wirewound Inductor 4.5 A 26mOhm Nonstandard; Saturation Current: 6.8A; Current Rating: 4.5A
footprint PWRIND-4.7U-0001
pins: 1, 2

## PWRIND-5U-0001
designator L?, comment Inductance: 5 uH +/- 20%  (hidden comment: SRR1206-5R0ML)
5 µH Shielded Drum Core, Wirewound Inductor 4.7 A 22mOhm Max Nonstandard; Current: 4.7A; Saturation Current: 8.3A; DCR: 22mOhm
footprint PWRIND-5U-0001
pins: 1, 2

## PWRIND-15U-0001
designator L?, comment Inductance: 15 uH +/- 20%  Saturation Current: 4A  (hidden comment: SRN8040TA-150M)
15 µH Semi-Shielded Drum Core, Wirewound Inductor 3.6 A 50mOhm Nonstandard
footprint PWRIND-15U-0001
pins: 1, 2

## RES-0-0001
designator R?, comment Resistance: 0 Ohm  Power: 1/10 W  (hidden comment: RMCF0603ZT0R00)
0 Ohms Jumper 0.1W, 1/10W Chip Resistor 0603 (1608 Metric) Automotive AEC-Q200 Thick Film; Package Size: 0603
footprint RES-0603
pins: 1, 2

## RES-0-0002-JLC
designator R?, comment Resistance: 0 Ohm  Power: 62.5 mW  (hidden comment: RC0402FR-070RL)
62.5mW Thick Film Resistors 50V -55℃~+155℃ 0Ω 0402 Chip Resistor - Surface Mount ROHS; assembled?: yes; JLC part number: C106231
footprint RES-0402
pins: 1, 2

## RES-1-0001
designator R?, comment Power: 1/8 W  Resistance: 1 Ohms ±1%  (hidden comment: RNCP0603FTD1R00)
1 Ohms ±1% 0.125W, 1/8W Chip Resistor 0603 (1608 Metric) Anti-Sulfur Thin Film
footprint RES-0603
pins: 1, 2

## RES-1-0002-JLC
designator R?, comment Resistanvce: 1 Ohm +/- 5%  Power: 1/10 W  (hidden comment: ERJ2GEJ1R0X)
100mW Thick Film Resistors ±5% -100ppm/℃~+600ppm/℃ -55℃~+155℃ 1Ω 0402 Chip Resistor - Surface Mount ROHS; assembled?: yes; JLC part number: C412890
footprint RES-0402
pins: 1, 2

## RES-1K-0001
designator R?, comment Power Rating: 1/16W  Resistance: 1kOhm +/-5%  (hidden comment: RC0402JR-071KP)
RES SMD 1K OHM 5% 1/16W 0402; Manufacturer: YAGEO; Assembled?: no; Manufacturer Part Number: RC0402JR-071KP; Package Size: 0402
footprint RES-0402
pins: 1, 2

## RES-1K-0002
designator R?, comment Power Rating: 1/10W  Resistance: 1kOhm +/-1%  (hidden comment: RT0603FRE131KL)
CHIP RESISTOR THIN FLIM HIGH PRE; Manufacturer: YAGEO; Assembled?: no; Manufacturer Part Number: RT0603FRE131KL; Package Size: 0603
footprint RES-0603
pins: 1, 2

## RES-1K-0003-JLC
designator R?, comment Resistance: 1k Ohm +/- 5%  Power: 1/16 W  (hidden comment: RC0402FR-071KL)
62.5mW Thick Film Resistors 50V ±100ppm/℃ ±1% -55℃~+155℃ 1kΩ 0402 Chip Resistor - Surface Mount ROHS; assembled?: yes; JLC Part Number: C106235
footprint RES-0402
pins: 1, 2

## RES-1M-0001
designator R?, comment Power: 1/10 W  Resistance: 1 MOhm  (hidden comment: RMCF0603FT1M00)
1 MOhms ±1% 0.1W, 1/10W Chip Resistor 0603 (1608 Metric) Automotive AEC-Q200 Thick Film; Package Size: 0603
footprint RES-0603
pins: 1, 2

## RES-1M-0002-JLC
designator R?, comment Resistance: 1M Ohm +/- 1%  Power: 1/5 W  (hidden comment: ERJPA2F1004X)
1/5W ±100ppm/℃ ±1% -55℃~+155℃ 1MΩ 0402 Chip Resistor - Surface Mount ROHS; assembled?: yes; JLC part number: C427259
footprint RES-0402
pins: 1, 2

## RES-2K-0001
designator R?, comment Resistance: 2K +/- 1%  Power: 1/16 W  (hidden comment: RC0402FR-072KP)
2 kOhms ±1% 0.063W, 1/16W Chip Resistor 0402 (1005 Metric) Thick Film
footprint RES-0402
pins: 1, 2

## RES-2K-0002-JLC
designator R?, comment Resistance: 2k Ohm +/- 1%  Parameter 2: 1/10 W  (hidden comment: ERJ2RKF2001X)
100mW Thick Film Resistors 100V ±100ppm/℃ ±1% -55℃~+155℃ 2kΩ 0402  Chip Resistor - Surface Mount ROHS; assembled?: yes; JLC part number: C413086
footprint RES-0402
pins: 1, 2

## RES-3.83K-0001
designator R?, comment Resistance: 3.83 kOhms +/- 1%  Power: 1/10 W  (hidden comment: RMCF0603FT3K83)
3.83 kOhms ±1% 0.1W, 1/10W Chip Resistor 0603 (1608 Metric) Automotive AEC-Q200 Thick Film
footprint RES-0603
pins: 1, 2

## RES-3.83K-0002-JLC
designator R?, comment Resistance: 3.83k Ohm +/- 1%  Power: 1/10 W  (hidden comment: 0603WAF6201T5E)
100mW Thick Film Resistors 75V ±100ppm/℃ ±1% -55℃~+155℃ 6.2kΩ 0603  Chip Resistor - Surface Mount ROHS; assembled?: yes; JLC part number: C4260
footprint RES-0402
pins: 1, 2

## RES-4.7K-0001
designator R?, comment Power Rating: 1/16W  Resistance: 4.7kOhm +/-1%  (hidden comment: RC0402FR-074K7P)
RES SMD 4.7K OHM 1% 1/16W 0402; Manufacturer: YAGEO; Assembled?: no; Manufacturer Part Number: RC0402FR-074K7P; Package Size: 0402
footprint RES-0402
pins: 1, 2

## RES-4.7K-0002
designator R?, comment Power Rating: 1/10W  Resistance: 4.7kOhm +/-1%  (hidden comment: AF0603FR-074K7L)
RES SMD 4.7K OHM 1% 1/10W 0603; Manufacturer: YAGEO; Assembled?: no; Manufacturer Part Number: AF0603FR-074K7L; Package Size: 0603
footprint RES-0603
pins: 1, 2

## RES-4.7K-0003-JLC
designator R?, comment Resistance: 4.7k Ohm +/- 1%  Power: 1/8 W  (hidden comment: RC0402FR-7W4K7L)
125mW Thick Film Resistors 50V ±1% ±200ppm/℃ -55℃~+155℃ 4.7kΩ 0402  Chip Resistor - Surface Mount ROHS; assembled?: yes; JLC part number: C606173
footprint RES-0402
pins: 1, 2

## RES-5.6K-0001
designator R?, comment Power Rating: 1/16W  Resistance: 5.6kOhm +/-1%  (hidden comment: AC0402FR-075K6L)
5.6 kOhms ±1% 0.063W, 1/16W Chip Resistor 0402 (1005 Metric) Automotive AEC-Q200, Moisture Resistant Thick Film; Manufacturer: YAGEO; Assembled?: no; Manufacturer Part Number: AC0402FR-075K6L; Package Size: 0402
footprint RES-0402
pins: 1, 2

## RES-5.6K-0002-JLC
designator R?, comment Resistance: 5.6K +/- 5%  Power: 1/10 W  (hidden comment: ERJ2GEJ472X)
100mW Thick Film Resistors ±5% ±200ppm/℃ -55℃~+155℃ 4.7kΩ 0402  Chip Resistor - Surface Mount ROHS; assembled?: yes; JLC part number: C413001
footprint RES-0402
pins: 1, 2

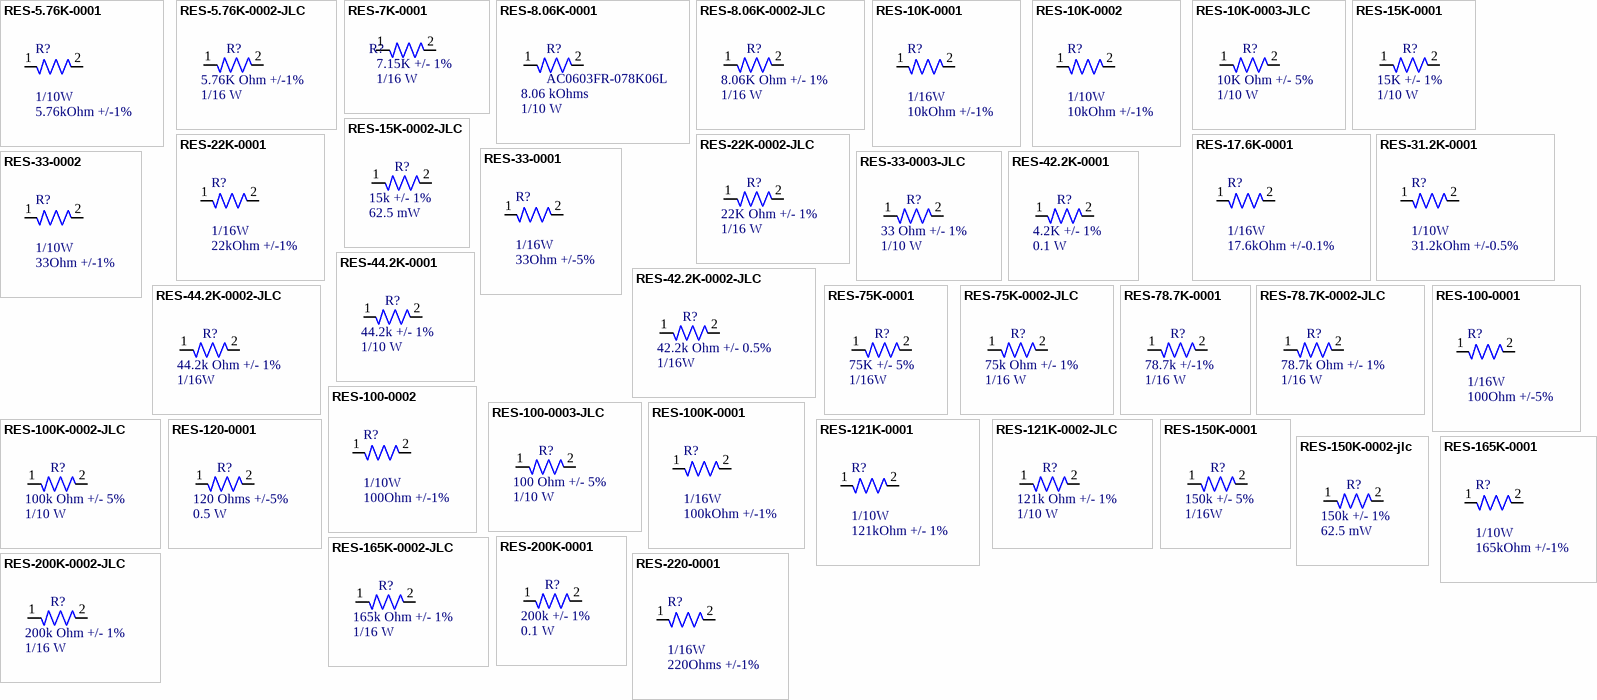
[diagram p3: symbols RES-5.76K-0001 to RES-220-0001]

## RES-5.76K-0001
designator R?, comment Power Rating: 1/10W  Resistance: 5.76kOhm +/-1%  (hidden comment: ARG03FTC5761)
100mW Thin Film Resistor 75V ±25ppm/℃ ±1% -55℃~+155℃ 5.76kΩ 0603 Chip Resistor - Surface Mount ROHS; Manufacturer: Viking Tech; Assembled?: no; Manufacturer Part Number: ARG03FTC5761; Package Size: 0603
footprint RES-0603
pins: 1, 2

## RES-5.76K-0002-JLC
designator R?, comment Resistance: 5.76K Ohm +/-1%  Power: 1/16 W  (hidden comment: RTT025761FTH)
62.5mW Thick Film Resistors 50V ±100ppm/℃ ±1% -55℃~+155℃ 5.76kΩ 0402  Chip Resistor - Surface Mount ROHS; assembled?: yes; JLC part number: C11590
footprint RES-0402
pins: 1, 2

## RES-7K-0001
designator R?, comment Resistance: 7.15K +/- 1%  Power: 1/16 W  (hidden comment: CRCW04027K15FKED)
7.15 kOhms ±1% 0.063W, 1/16W Chip Resistor 0402 (1005 Metric) Automotive AEC-Q200 Thick Film
footprint RES-0402
pins: 1, 2

## RES-8.06K-0001
designator R?, comment AC0603FR-078K06L  Resistance: 8.06 kOhms  Power: 1/10 W
8.06 kOhms ±1% 0.1W, 1/10W Chip Resistor 0603 (1608 Metric) Automotive AEC-Q200, Moisture Resistant Thick Film
footprint RES-0603
pins: 1, 2

## RES-8.06K-0002-JLC
designator R?, comment Resistance: 8.06K Ohm +/- 1%  Power: 1/16 W  (hidden comment: RC0402FR-078K06L)
62.5mW Thick Film Resistors 50V ±100ppm/℃ ±1% -55℃~+155℃ 8.06kΩ 0402  Chip Resistor - Surface Mount ROHS; assembled?: yes; JLC part number: C276278
footprint RES-0402
pins: 1, 2

## RES-10K-0001
designator R?, comment Power Rating: 1/16W  Resistance: 10kOhm +/-1%  (hidden comment: RC0402FR-0710KL)
RES 10K OHM 1% 1/16W 0402; Manufacturer: YAGEO; Assembled?: no; Manufacturer Part Number: RC0402FR-0710KL; Package Size: 0402
footprint RES-0402
pins: 1, 2

## RES-10K-0002
designator R?, comment Power Rating: 1/10W  Resistance: 10kOhm +/-1%  (hidden comment: RC0603FR-0710KP)
RES SMD 10K OHM 1% 1/10W 0603; Manufacturer: YAGEO; Assembled?: no; Manufacturer Part Number: RC0603FR-0710KP; Package Size: 0603
footprint RES-0603
pins: 1, 2

## RES-10K-0003-JLC
designator R?, comment Resistance: 10K Ohm +/- 5%  Power: 1/10 W  (hidden comment: ERJ2GEJ103X)
100mW Thick Film Resistors 100V ±5% ±200ppm/℃ -55℃~+155℃ 10kΩ 0402  Chip Resistor - Surface Mount ROHS; assembled?: yes; JLC part number: C278577
footprint RES-0402
pins: 1, 2

## RES-15K-0001
designator R?, comment Res: 15K +/- 1%  Power: 1/10 W  (hidden comment: ERJ-2RKF1502X)
15 kOhms ±1% 0.1W, 1/10W Chip Resistor 0402 (1005 Metric) Automotive AEC-Q200 Thick Film
footprint RES-0402
pins: 1, 2

## RES-15K-0002-JLC
designator R?, comment Resistance: 15k +/- 1%  Power: 62.5 mW  (hidden comment: 0402WGF1502TCE)
62.5mW Thick Film Resistors 50V ±100ppm/℃ ±1% -55℃~+155℃ 15kΩ 0402 Chip Resistor - Surface Mount ROHS; jlc?: yes; jlc part number: C25756
footprint RES-0402
pins: 1, 2

## RES-17.6K-0001
designator R?, comment Power Rating: 1/16W  Resistance: 17.6kOhm +/-0.1%  (hidden comment: TNPW040217K6BEED)
17.6 kOhms ±0.1% 0.063W, 1/16W Chip Resistor 0402 (1005 Metric) Anti-Sulfur, Automotive AEC-Q200, Moisture Resistant Thin Film; Manufacturer: Vishay Dale; Assembled?: no; Manufacturer Part Number: TNPW040217K6BEED; Package Size: 0402
footprint RES-0402
pins: 1, 2

## RES-22K-0001
designator R?, comment Power Rating: 1/16W  Resistance: 22kOhm +/-1%  (hidden comment: RC0402FR-1022KL)
22 kOhms ±1% 0.063W, 1/16W Chip Resistor 0402 (1005 Metric) Thick Film; Manufacturer: YAGEO; Assembled?: no; Manufacturer Part Number: RC0402FR-1022KL; Package Size: 0402
footprint RES-0402
pins: 1, 2

## RES-22K-0002-JLC
designator R?, comment Resistance: 22K Ohm +/- 1%  Power: 1/16 W  (hidden comment: AC0402FR-0722KL)
62.5mW Thick Film Resistors 50V ±100ppm/℃ ±1% -55℃~+155℃ 22kΩ 0402  Chip Resistor - Surface Mount ROHS; assembled?: yes; JLC part number: C144778
footprint RES-0402
pins: 1, 2

## RES-31.2K-0001
designator R?, comment Power Rating: 1/10W  Resistance: 31.2kOhm +/-0.5%  (hidden comment: RT0603DRE0731K2L)
31.2 kOhms ±0.5% 0.1W, 1/10W Chip Resistor 0603 (1608 Metric) Thin Film; Manufacturer: YAGEO; Assembled?: no; Manufacturer Part Number: RT0603DRE0731K2L; Package Size: 0603
footprint RES-0603
pins: 1, 2

## RES-33-0001
designator R?, comment Power Rating: 1/16W  Resistance: 33Ohm +/-5%  (hidden comment: RC0402JR-0733RP)
RES SMD 33 OHM 5% 1/16W 0402; Manufacturer: YAGEO; Assembled?: no; Manufacturer Part Number: RC0402JR-0733RP; Package Size: 0402
footprint RES-0402
pins: 1, 2

## RES-33-0002
designator R?, comment Power Rating: 1/10W  Resistance: 33Ohm +/-1%  (hidden comment: RC0603FR-0733RP)
RES SMD 33 OHM 1% 1/10W 0603; Manufacturer: YAGEO; Assembled?: no; Manufacturer Part Number: RC0603FR-0733RP; Package Size: 0603
footprint RES-0603
pins: 1, 2

## RES-33-0003-JLC
designator R?, comment Resistance: 33 Ohm +/- 1%  Power: 1/10 W  (hidden comment: ERJ2RKF33R0X)
100mW Thick Film Resistors ±100ppm/℃ ±1% -55℃~+155℃ 33Ω 0402  Chip Resistor - Surface Mount ROHS; assembled?: yes; JLC part number: C278594
footprint RES-0402
pins: 1, 2

## RES-42.2K-0001
designator R?, comment Resistance: 4.2K +/- 1%  Power Rating: 0.1 W  (hidden comment: CRCW060342K2FKEA)
42.2 kOhms ±1% 0.1W, 1/10W Chip Resistor 0603 (1608 Metric) Automotive AEC-Q200 Thick Film; Manufacturer: VIshay Dale; Assembled?: Yes; Manufacturer Part Number: CRCW060342K2FKEA; Package Size: 0603
footprint RES-0603
pins: 1, 2

## RES-42.2K-0002-JLC
designator R?, comment Resistance: 42.2k Ohm +/- 0.5%  Power: 1/16W  (hidden comment: RC0402DR-0742K2L)
62.5mW Thick Film Resistors 50V ±100ppm/℃ ±0.5% -55℃~+155℃ 42.2kΩ 0402  Chip Resistor - Surface Mount ROHS; assembled?: yes; JLC part number: C471785
footprint RES-0402
pins: 1, 2

## RES-44.2K-0001
designator R?, comment Resistance: 44.2k +/- 1%  Power: 1/10 W  (hidden comment: RMCF0603FT44K2)
44.2 kOhms ±1% 0.1W, 1/10W Chip Resistor 0603 (1608 Metric) Automotive AEC-Q200 Thick Film
footprint RES-0603
pins: 1, 2

## RES-44.2K-0002-JLC
designator R?, comment Resistance: 44.2k Ohm +/- 1%  Power: 1/16W  (hidden comment: RC0402FR-0744K2L)
62.5mW Thick Film Resistors 50V ±100ppm/℃ ±1% -55℃~+155℃ 44.2kΩ 0402  Chip Resistor - Surface Mount ROHS; assembled?: yes; JLC part number: C354260
footprint RES-0402
pins: 1, 2

## RES-75K-0001
designator R?, comment Resistance: 75K +/- 5%  Power: 1/16W  (hidden comment: RMCF0402JT75K0)
75 kOhms ±5% 0.063W, 1/16W Chip Resistor 0402 (1005 Metric) Automotive AEC-Q200 Thick Film
footprint RES-0402
pins: 1, 2

## RES-75K-0002-JLC
designator R?, comment Resistance: 75k Ohm +/- 1%  Power: 1/16 W  (hidden comment: CR0402FF7502G)
62.5mW Thick Film Resistors 50V ±1% ±200ppm/℃ -55℃~+125℃ 75kΩ 0402  Chip Resistor - Surface Mount ROHS; assembled?: yes; JLC part number: C100527
footprint RES-0402
pins: 1, 2

## RES-78.7K-0001
designator R?, comment Resistance: 78.7k +/-1%  Power: 1/16 W  (hidden comment: RMCF0402FT78K7)
78.7 kOhms ±1% 0.063W, 1/16W Chip Resistor 0402 (1005 Metric) Automotive AEC-Q200 Thick Film
footprint RES-0402
pins: 1, 2

## RES-78.7K-0002-JLC
designator R?, comment Resistance: 78.7k Ohm +/- 1%  Power: 1/16 W  (hidden comment: RC0402FR-0778K7L)
62.5mW 50V ±100ppm/℃ ±1% -55℃~+155℃ 78.7kΩ 0402  Chip Resistor - Surface Mount ROHS; assembled?: yes; JLC part number: C163454
footprint RES-0402
pins: 1, 2

## RES-100-0001
designator R?, comment Power Rating: 1/16W  Resistance: 100Ohm +/-5%  (hidden comment: RC0402JR-07100RP)
RES SMD 100 OHM 5% 1/16W 0402; Manufacturer: YAGEO; Assembled?: no; Manufacturer Part Number: RC0402JR-07100RP; Package Size: 0402
footprint RES-0402
pins: 1, 2

## RES-100-0002
designator R?, comment Power Rating: 1/10W  Resistance: 100Ohm +/-1%  (hidden comment: AC0603FR-10100RL)
100 Ohms ±1% 0.1W, 1/10W Chip Resistor 0603 (1608 Metric) Automotive AEC-Q200 Thick Film; Manufacturer: YAGEO; Assembled?: no; Manufacturer Part Number: AC0603FR-10100RL; Package Size: 0603
footprint RES-0603
pins: 1, 2

## RES-100-0003-JLC
designator R?, comment Resistance: 100 Ohm +/- 5%  Power: 1/10 W  (hidden comment: ERJ2GEJ101X)
100mW Thick Film Resistors ±5% ±200ppm/℃ -55℃~+155℃ 100Ω 0402  Chip Resistor - Surface Mount ROHS; assembled?: yes; JLC part number: C412972
footprint RES-0402
pins: 1, 2

## RES-100K-0001
designator R?, comment Power Rating: 1/16W  Resistance: 100kOhm +/-1%  (hidden comment: AF0402FR-07100KL)
100 kOhms ±1% 0.063W, 1/16W Chip Resistor 0402 (1005 Metric) Anti-Sulfur, Automotive AEC-Q200 Thick Film; Manufacturer: YAGEO; Assembled?: no; Manufacturer Part Number: AF0402FR-07100KL; Package Size: 0402
footprint RES-0402
pins: 1, 2

## RES-100K-0002-JLC
designator R?, comment Resistance: 100k Ohm +/- 5%  Power: 1/10 W  (hidden comment: ERJ2GEJ104X)
100mW Thick Film Resistors ±5% ±200ppm/℃ -55℃~+155℃ 100kΩ 0402  Chip Resistor - Surface Mount ROHS; assembled?: yes; JLC part number: C413017
footprint RES-0402
pins: 1, 2

## RES-120-0001
designator R?, comment Resistance: 120 Ohms +/-5%  Power: 0.5 W  (hidden comment: ERJ-P06J121V)
120 Ohms ±5% 0.5W, 1/2W Chip Resistor 0805 (2012 Metric) Automotive AEC-Q200, Pulse Withstanding Thick Film
footprint RES-0805
pins: 1, 2

## RES-121K-0001
designator R?, comment Power Rating: 1/10W  Resistance: 121kOhm +/- 1%  (hidden comment: RC0603FR-07121KL)
121k Ohms ±1% 0.1W, 1/10W Chip Resistor 0603 (1608 Metric) Moisture Resistant Thick Film; Manufacturer: YAGEO; Assembled?: no; Manufacturer Part Number: RC0603FR-07121KL; Package Size: 0603
footprint RES-0603
pins: 1, 2

## RES-121K-0002-JLC
designator R?, comment Resistance: 121k Ohm +/- 1%  Power: 1/10 W  (hidden comment: RMC10K1213FTH)
100mW ±100ppm/℃ ±1% 121kΩ 0402  Chip Resistor - Surface Mount ROHS; assembled?: yes; JLC part number: C323687
footprint RES-0402
pins: 1, 2

## RES-150K-0001
designator R?, comment Resistance: 150k +/- 5%  Power: 1/16W  (hidden comment: *RC0402JR-07150KL)
150 kOhms ±5% 0.063W, 1/16W Chip Resistor 0402 (1005 Metric) Moisture Resistant Thick Film
footprint RES-0402
pins: 1, 2

## RES-150K-0002-jlc
designator R?, comment Resistance: 150k +/- 1%  Power: 62.5 mW  (hidden comment: AF0402FR-07150KL)
62.5mW Thick Film Resistors 50V ±100ppm/℃ ±1% -55℃~+155℃ 150kΩ 0402 Chip Resistor - Surface Mount ROHS; jlc part number: C144033; jlc?: yes
footprint RES-0402
pins: 1, 2

## RES-165K-0001
designator R?, comment Power Rating: 1/10W  Resistance: 165kOhm +/-1%  (hidden comment: RC0603FR-07165KL)
165k Ohms ±1% 0.1W, 1/10W Chip Resistor 0603 (1608 Metric) Moisture Resistant Thick Film; Manufacturer: YAGEO; Assembled?: no; Manufacturer Part Number: RC0603FR-07165KL; Package Size: 0603
footprint RES-0603
pins: 1, 2

## RES-165K-0002-JLC
designator R?, comment Resistance: 165k Ohm +/- 1%  Power: 1/16 W  (hidden comment: RC0402FR-07165KL)
62.5mW Thick Film Resistors 50V ±100ppm/℃ ±1% -55℃~+155℃ 165kΩ 0402  Chip Resistor - Surface Mount ROHS; assembled?: yes; JLC part number: C327368
footprint RES-0402
pins: 1, 2

## RES-200K-0001
designator R?, comment Resistance: 200k +/- 1%  Power Rating: 0.1 W  (hidden comment: ERJ-3EKF2003V)
200 kOhms ±1% 0.1W, 1/10W Chip Resistor 0603 (1608 Metric) Automotive AEC-Q200 Thick Film; Manufacturer: Panasonic Electronic Components; Assembled?: Yes; MFP: ERJ-3EKF2003V; Package SIze: 0603
footprint RES-0603
pins: 1, 2

## RES-200K-0002-JLC
designator R?, comment Resistance: 200k Ohm +/- 1%  Power: 1/16 W  (hidden comment: RC-02W2003FT)
62.5mW 50V ±1% ±200ppm/℃ -55℃~+155℃ 200kΩ 0402  Chip Resistor - Surface Mount ROHS; assembled?: yes; JLC part number: C258094
footprint RES-0402
pins: 1, 2

## RES-220-0001
designator R?, comment Power Rating: 1/16W  Resistance: 220Ohms +/-1%  (hidden comment: AC0402FR-07220RL)
220 Ohms ±1% 0.063W, 1/16W Chip Resistor 0402 (1005 Metric) Automotive AEC-Q200, Moisture Resistant Thick Film; Manufacturer: YAGEO; Assembled?: no; Manufacturer Part Number: AC0402FR-07220RL; Package Size: 0402
footprint RES-0402
pins: 1, 2

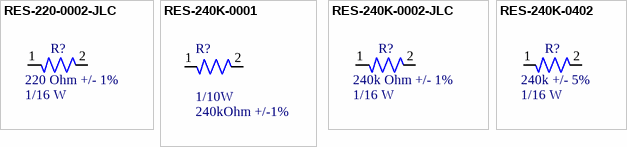
[diagram p4: symbols RES-220-0002-JLC to RES-240K-0402]